# Altium footprint library STM32F1_CNC_HW.PcbLib: 43 footprints (part 3 of 3)
Each footprint in its own frame and in the unit in brackets; x right, y up, seen from the top. Pads: shape width x height; smd on the part's side, far side on the other; paste and mask are expansions set on the pad; w line width, h text height; cw(c..) or ccw(c..) is an arc to the next point about the centre after c.
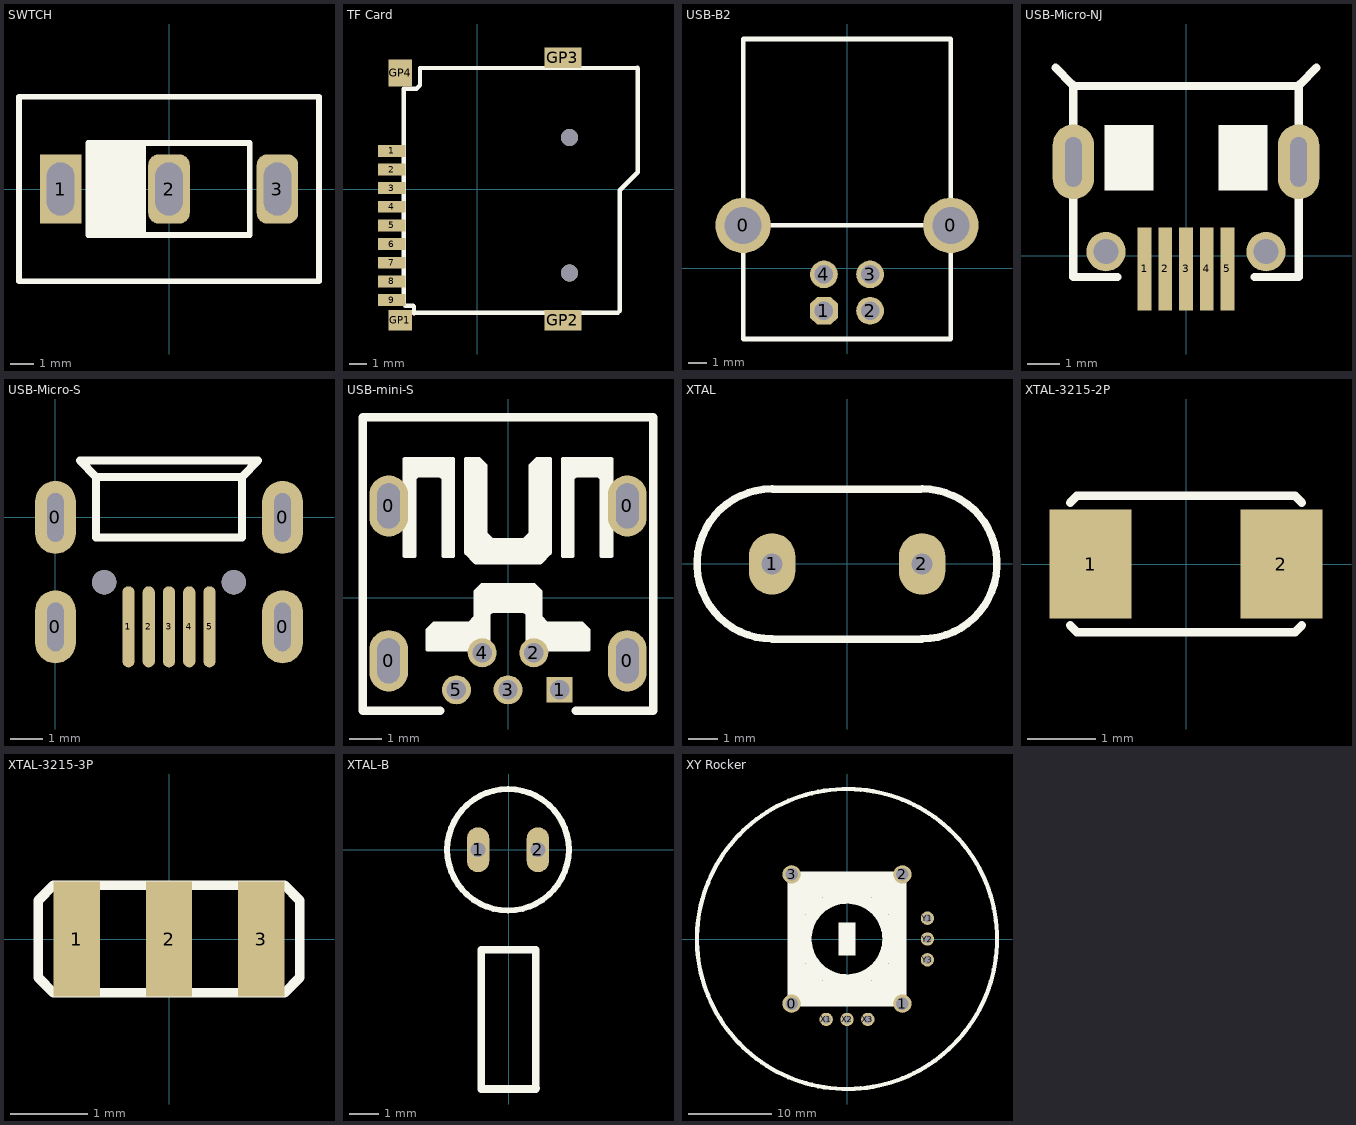
[diagram p2: the footprints below, top view; thin cyan lines are the x and y axes]

## SWTCH [mm]
pads (3):
  rect 1.8x3 hole 1.2 slot 2.3 at 90 deg: 1(-4.7,0)
  rrect50% 1.8x3 hole 1.2 slot 2.3 at 90 deg: 2(0,0) 3(4.7,0)
Top Overlay:
  rectangle: -3.5,-2 -1,2
  lines w0.254: -6.5,-4 -6.5,4 6.5,4 6.5,-4 -6.5,-4 ; -3.5,-2 3.5,-2 3.5,2 -3.5,2 -3.5,-2

## TF Card [mm]
pads (13):
  rect 1.6x0.7 smd: 1(-5.05,2.25) 2(-5.05,1.15) 3(-5.05,0.05) 4(-5.05,-1.05) 5(-5.05,-2.15) 6(-5.05,-3.25) 7(-5.05,-4.35) 8(-5.05,-5.45) 9(-5.05,-6.55)
  rect 1.4x1.2 smd: GP1(-4.55,-7.75)
  rect 2.2x1.2 smd: GP2(5.05,-7.75) GP3(5.05,7.75)
  rect 1.4x1.6 smd: GP4(-4.55,6.85)
via 5.45,3.05 diameter 1 hole 1
via 5.45,-4.95 diameter 1 hole 1
Top Layer:
  lines w0.254: -3.738,-7.344 -3.688,-7.293
Top Overlay:
  lines w0.254: -3.738,-7.344 -3.738,-6.937 -3.789,-6.886 -4.246,-6.886 -4.348,-6.785 -4.348,5.915 -3.586,5.915 -3.383,6.118 -3.383,7.134 9.45,7.15 ; -3.688,-7.293 8.301,-7.293 8.403,-7.191 8.403,-0.079 9.47,0.988 9.47,7.13

## USB-B2 [mil]
pads (6):
  round 120 hole 80: 0(-225,92.52) 0(225,92.52)
  oct 60x60 hole 40: 1(-50,-92.52)
  round 60 hole 40: 2(50,-92.52) 3(50,-13.78) 4(-50,-13.78)
Top Overlay:
  lines w10: -225,92.52 225,92.52 ; -225,-153.78 225,-153.78 225,496.22 -225,496.22 -225,-153.78

## USB-Micro-NJ [mm]
pads (9):
  rect 0.42x2.54 smd: 1(-1.27,-0.4) 2(-0.635,-0.4) 3(0,-0.4) 4(0.635,-0.4) 5(1.27,-0.4)
  oval 1.27x2.286 hole 0.508 slot 1.524 at 90 deg: ""(-3.45,2.875) ""(3.45,2.875)
  round 1.2 hole 0.762 unplated: ""(-2.45,0.125) ""(2.45,0.125)
Top Overlay:
  rectangle: 1,2 2.5,4
  rectangle: -2.5,2 -1,4
  lines w0.254: -3.994,5.757 -3.486,5.249 ; -2.1,-0.649 -3.45,-0.649 -3.45,5.2 3.45,5.2 3.45,-0.649 2.1,-0.649 ; 3.486,5.249 3.994,5.757

## USB-Micro-S [mil]
pads (11):
  oval 50x90 hole 20 slot 60 at 90 deg: 0(0,-135) 0(0,0) 0(280,-135) 0(280,0)
  oval 15x100 smd: 1(90,-135) 2(115,-135) 3(140,-135) 4(165,-135) 5(190,-135)
  round 30 hole 30 unplated: ""(60,-80) ""(220,-80)
Top Overlay:
  lines w10: 50,50 50,-25 230,-25 230,50 ; 50,50 30,70 250,70 230,50 ; 50,50 230,50

## USB-mini-S [mm]
pads (9):
  oval 1.2x1.9 hole 0.7 slot 1.4 at 90 deg: 0(-3.7,-1.95) 0(-3.7,2.85) 0(3.7,-1.95) 0(3.7,2.85)
  rect 0.8x0.8 hole 0.6: 1(1.6,-2.85)
  round 0.9 hole 0.6: 2(0.8,-1.7) 3(0,-2.85) 4(-0.8,-1.7) 5(-1.6,-2.85)
Top Overlay:
  region: 2.5,-1.599 2.5,-0.999 2.3,-0.799 1.2,-0.799 1,-0.599 1,0.201 0.8,0.401 -0.8,0.401 -1,0.201 -1,-0.599 -1.2,-0.799 -2.3,-0.799 -2.5,-0.999 -2.5,-1.599 -0.8,-1.599 -0.6,-1.399 -0.6,-0.499 -0.5,-0.399 0.5,-0.399 0.6,-0.499 0.6,-1.399 0.8,-1.599
  region: 3.2,1.301 3.2,4.301 1.7,4.301 1.7,1.301 2,1.301 2,3.701 2.1,3.801 2.8,3.801 2.9,3.701 2.9,1.301
  region: -1.7,1.301 -1.7,4.301 -3.2,4.301 -3.2,1.301 -2.9,1.301 -2.9,3.701 -2.8,3.801 -2.1,3.801 -2,3.701 -2,1.301
  region: 1.3,4.301 0.9,4.301 0.7,4.101 0.7,2.001 0.5,1.801 -0.5,1.801 -0.7,2.001 -0.7,4.101 -0.9,4.301 -1.3,4.301 -1.3,1.401 -1,1.101 1,1.101 1.3,1.401
  lines w0.127: -2.8,3.801 -2.9,3.701 -2.9,1.301 -3.2,1.301 -3.2,4.301 -1.7,4.301 -1.7,1.301 -2,1.301 -2,3.701 -2.1,3.801 -2.8,3.801 ; -2.8,3.801 -2.8,3.801 ; -0.8,-1.599 -2.5,-1.599 -2.5,-0.999 -2.3,-0.799 -1.2,-0.799 -1,-0.599 -1,0.201 -0.8,0.401 0.8,0.401 1,0.201 1,-0.599 1.2,-0.799 2.3,-0.799 2.5,-0.999 2.5,-1.599 0.8,-1.599 ; -0.8,-1.599 -0.8,-1.599 ; -0.8,-1.599 -0.6,-1.399 -0.6,-0.499 -0.5,-0.399 0.5,-0.399 0.6,-0.499 0.6,-1.399 0.8,-1.599 ; 0.8,-1.599 0.8,-1.599 ; 2.1,3.801 2.8,3.801 2.9,3.701 2.9,1.301 3.2,1.301 3.2,4.301 1.7,4.301 1.7,1.301 2,1.301 2,3.701 2.1,3.801 ; 2.1,3.801 2.1,3.801 ; -1.3,1.401 -1.3,4.301 -0.9,4.301 -0.7,4.101 -0.7,2.001 -0.5,1.801 0.5,1.801 0.7,2.001 0.7,4.101 0.9,4.301 1.3,4.301 1.3,1.401 1,1.101 -1,1.101 -1.3,1.401
  lines w0.254: -2.1,-3.499 -4.5,-3.499 -4.5,5.601 4.5,5.601 4.5,-3.499 2.1,-3.499

## XTAL [mil]
pads (2):
  oval 62x82 hole 28: 1(-100,0) 2(100,0)
Top Overlay:
  lines w10: -100,-100.39 99.8,-100.39 ; -100,-100 cw(c-100,0) -100,100 ; -99.02,99.41 98.62,99.37 ; 100,-100 ccw(c100,0) 100,100

## XTAL-3215-2P [mm] "XTAL-SMT-3.2*1.5mm"
height 0.051
pads (2):
  rect 1.2x1.6 smd paste-0.051 mask+0.051: 1(-1.4,0) 2(1.4,0)
Top Overlay:
  lines w0.127: -1.7,-0.9 -1.6,-1 1.6,-1 1.7,-0.9 ; -1.7,0.9 -1.6,1 1.6,1 1.7,0.9

## XTAL-3215-3P [mm]
pads (3):
  rect 0.6x1.5 smd paste-0.051 mask+0.051: 1(-1.2,0) 2(0,0) 3(1.2,0)
Top Overlay:
  lines w0.127: -1.7,-0.5 -1.5,-0.7 1.5,-0.7 1.7,-0.5 1.7,0.5 1.5,0.7 -1.5,0.7 -1.7,0.5 -1.7,-0.5

## XTAL-B [mm]
pads (2):
  oval 0.75x1.5 hole 0.5: 1(-1.024,0.001) 2(0.976,0.001)
Top Overlay:
  circle w0.2: c-0.024,0.001 r2.032
  lines w0.254: 0.926,-7.974 0.901,-7.999 ; 0.901,-7.999 0.901,-3.349 -0.924,-3.349 -0.924,-7.999 0.901,-7.999

## XY Rocker [mm]
height 10
pads (10):
  round 2.2 hole 1.5: 0(-6.65,-7.75) 1(6.65,-7.75) 2(6.65,7.75) 3(-6.65,7.75)
  round 1.6 hole 1: X1(-2.5,-9.65) X2(0,-9.65) X3(2.5,-9.65) Y1(9.65,2.5) Y2(9.65,0) Y3(9.65,-2.5)
Top Overlay:
  circle w1.524: c0,0 r5
  circle w0.508: c0,0 r18
  rectangle: -5,3 -4,5
  rectangle: -5,-5 -4,-3
  rectangle: -5,-5 -3,-4
  rectangle: 3,-5 5,-4
  rectangle: 4,-5 5,-3
  rectangle: 4,3 5,5
  rectangle: 3,4 5,5
  rectangle: -5,4 -3,5
  rectangle: -7,5 7,8
  rectangle: 5,-8 7,8
  rectangle: -7,-8 7,-5
  rectangle: -7,-8 -5,8
  rectangle: -1,-2 1,2
  lines w0.254: -7,-8 -7,8 7,8 7,-8 -7,-8